# EAGLE library part SN74LS241DW (library SN74LS241DW)
OCTAL BUFFERS AND LINE DRIVERS WITH 3-STATE OUTPUTS
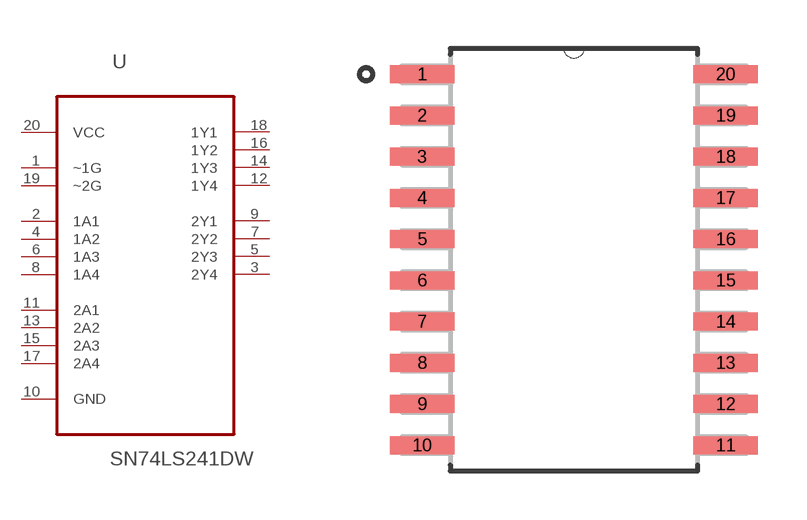
[diagram p0: symbol with the pads of SOIC127P1030X265-20N; footprint SOIC127P1030X265-20N]

Designator prefix U

## SN74LS241DW (MPN: SN74LS241DW; OC_FARNELL: 1739687; OC_NEWARK: 50R6539; PACKAGE: SOIC-20; SUPPLIER: Texas Instruments)  [SOIC127P1030X265-20N]
1  ~1G  in
2  1A1  in
3  2Y4  out
4  1A2  in
5  2Y3  out
6  1A3  in
7  2Y2  out
8  1A4  in
9  2Y1  out
10  GND  pas
11  2A1  in
12  1Y4  out
13  2A2  in
14  1Y3  out
15  2A3  in
16  1Y2  out
17  2A4  in
18  1Y1  out
19  ~2G  in
20  VCC  pwr

## Footprint SOIC127P1030X265-20N (pad centres in mm)
smd 1.981 x 0.559: 1 -4.674,5.715; 2 -4.674,4.445; 3 -4.674,3.175; 4 -4.674,1.905; 5 -4.674,0.635; 6 -4.674,-0.635; 7 -4.674,-1.905; 8 -4.674,-3.175; 9 -4.674,-4.445; 10 -4.674,-5.715; 11 4.674,-5.715; 12 4.674,-4.445; 13 4.674,-3.175; 14 4.674,-1.905; 15 4.674,-0.635; 16 4.674,0.635; 17 4.674,1.905; 18 4.674,3.175; 19 4.674,4.445; 20 4.674,5.715